# Altium footprint library AltiumAssignment.PcbLib: 1 footprints
Each footprint in its own frame and in the unit in brackets; x right, y up, seen from the top. Pads: shape width x height; smd on the part's side, far side on the other; paste and mask are expansions set on the pad; w line width, h text height; cw(c..) or ccw(c..) is an arc to the next point about the centre after c.
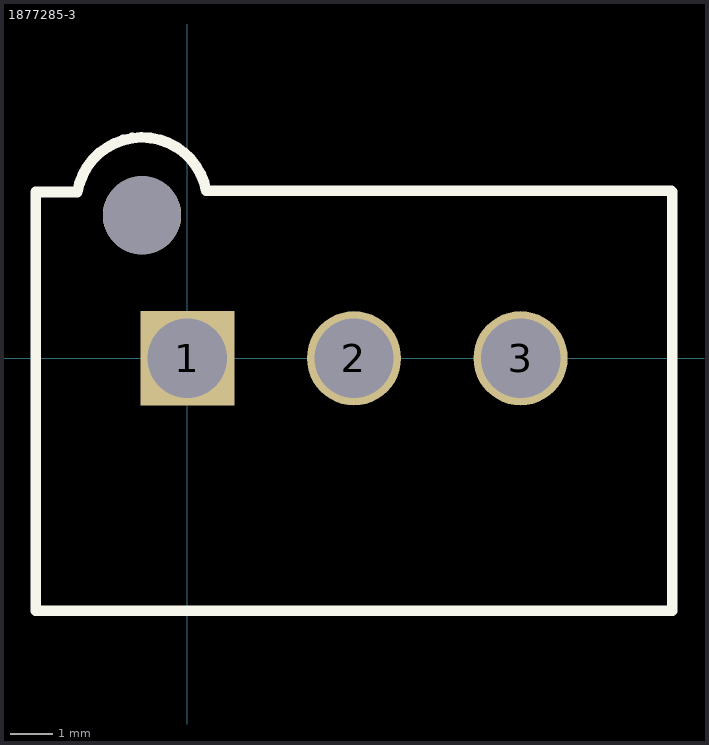
[diagram p0: the footprint, top view; thin cyan lines are the x and y axes]

## 1877285-3 [mm]
pads (4):
  rect 2.24x2.24 hole 1.89: 1(0,0)
  round 2.24 hole 1.89: 2(3.96,0) 3(7.92,0)
  round 1.86 hole 1.86 unplated: ""(-1.08,3.4)
Top Overlay:
  lines w0.254: -3.605,3.895 -3.605,3.25 -3.605,-6 11.525,-6 11.525,3.96 11.505,3.98 0.447,3.98 ccw(c-1.083,3.696) -2.617,3.952 -2.952,3.952 -3.605,3.952
3D body "c-1877285-3-c-3d.stp": height 12.01, standoff -3.61, extent -3.565,-5.885 11.565,4